# Altium footprint library 0402_DIODFN100X60X43-2N.PcbLib: 1 footprints
Each footprint in its own frame and in the unit in brackets; x right, y up, seen from the top. Pads: shape width x height; smd on the part's side, far side on the other; paste and mask are expansions set on the pad; w line width, h text height; cw(c..) or ccw(c..) is an arc to the next point about the centre after c.
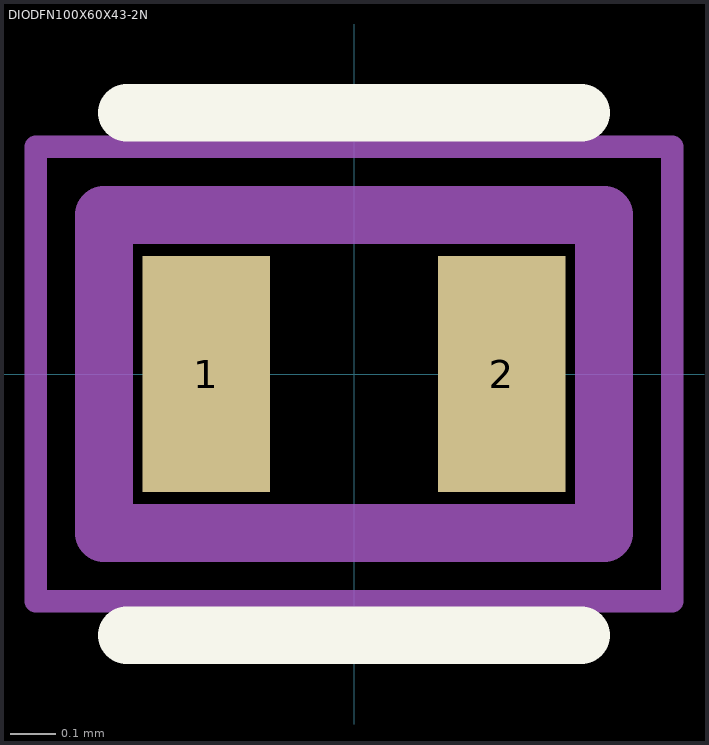
[diagram p0: the footprint, top view; thin cyan lines are the x and y axes]

## DIODFN100X60X43-2N [mm]
pads (2):
  rect 0.28x0.52 smd: 1(-0.325,0) 2(0.325,0)
Top Overlay:
  lines w0.127: -0.5,-0.575 0.5,-0.575 ; -0.5,0.575 0.5,0.575
Assembly Top:
  lines w0.127: -0.55,-0.35 -0.55,0.35 0.55,0.35 0.55,-0.35 -0.55,-0.35
Courtyard Top:
  lines w0.05: -0.7,-0.5 -0.7,0.5 0.7,0.5 0.7,-0.5 -0.7,-0.5
3D body "step_temp.STEP": height 0.25, standoff 0, extent -0.5,-0.3 0.5,0.3